# Altium integrated library Analog_Devices_Power_Management_Linear_Regulators.IntLib: 441 symbols (part 3 of 23)
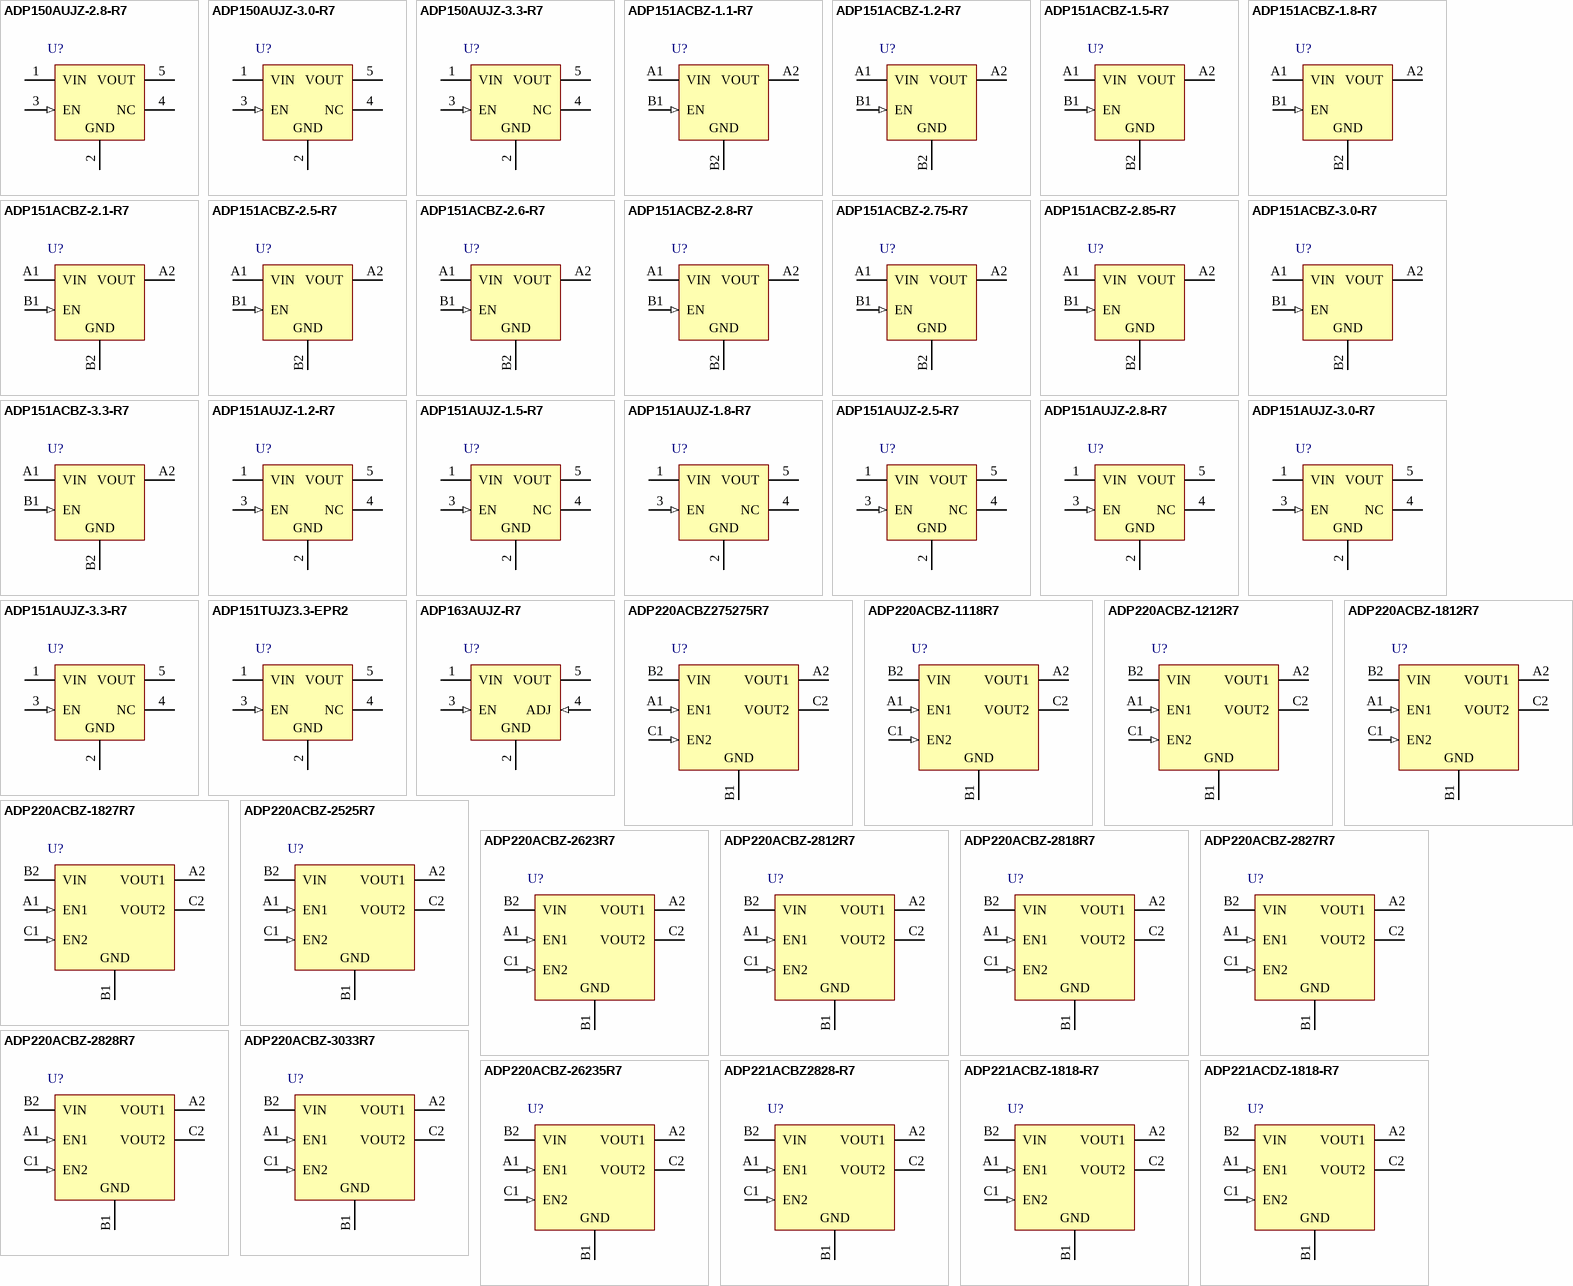
[diagram p13: symbols ADP150AUJZ-2.8-R7 to ADP221ACDZ-1818-R7]

## ADP151ACBZ-1.2-R7
designator U?
Ultralow Noise, 200 mA, CMOS Linear Regulator, 2.2 to 5.5 V Vin, 1.2 V Vout, Industrial, 4-pin BGA (CB-4-3), Reel; Manufacturer: Analog Devices; PartNumber: ADP151ACBZ-1.2-R7; Iout max: 200mA; Preset Vout Values (V): 1.2; Supply Current IGND @ Small Load: 10uA; Vin (max) (V): 5.5; Vin (min) (V): 2.2; DatasheetVersion: Rev. E; PackageVersion: 011409-A, 01/2009; PackageReference: CB-4-3; PackageDescription: 4-Ball Wafer Level Chip Scale Package, Body 0.76 x 0.76 mm, Pitch 0.4 mm; Supplier 1: Digi-Key; Supplier Part Number 1: ADP151ACBZ-1.2-R7TR-ND; Supplier 2: Digi-Key; Supplier Part Number 2: ADP151ACBZ-1.2-R7CT-ND; Supplier 3: Digi-Key; Supplier Part Number 3: ADP151ACBZ-1.2-R7DKR-ND; Supplier 4: Newark; Supplier Part Number 4: 23T4165; Supplier 5: Mouser; Supplier Part Number 5: 584-ADP151ACBZ-1.2R7; Packing: Reel; Mounting Technology: Surface Mount; ComponentLink1Description: Manufacturer URL; ComponentLink1URL: http://www.analog.com/en/index.html; ComponentLink2Description: Datasheet; ComponentLink2URL: http://www.analog.com/static/imported-files/data_sheets/ADP151.pdf; ComponentLink3Description: Package Specification; ComponentLink3URL: http:/www.analog.com/static/imported-files/packages/PKG_PDF/WLCSP(CB)/CB_4_3.pdf; ComponentLink4Description: URL Link1; ComponentLink4URL: Product URL:http://www.analog.com/en/ADP151/productSearch.html
footprint ADI-CB-4-3 (BGA, 4-Balls, Body 0.76x0.76mm, Pitch 0.4mm)
pins: A1 VIN (power) "Regulator Input Supply. Bypass VIN to GND with a 1 uF or greater capacitor", A2 VOUT (power) "Regulated Output Voltage. Bypass VOUT to GND with a 1 uF or greater capacitor", B1 EN (in) "Enable Input. Drive EN high to turn on the regulator; drive EN low to turn off the regulator. For automatic startup, connect EN to VIN.", B2 GND (power) "Ground"

## ADP151ACBZ-1.5-R7
designator U?
Ultralow Noise, 200 mA, CMOS Linear Regulator, 2.2 to 5.5 V Vin, 1.5 V Vout, Industrial, 4-pin BGA (CB-4-3), Reel; Manufacturer: Analog Devices; PartNumber: ADP151ACBZ-1.5-R7; Iout max: 200mA; Preset Vout Values (V): 1.5; Supply Current IGND @ Small Load: 10uA; Vin (max) (V): 5.5; Vin (min) (V): 2.2; DatasheetVersion: Rev. E; PackageVersion: 011409-A, 01/2009; PackageReference: CB-4-3; PackageDescription: 4-Ball Wafer Level Chip Scale Package, Body 0.76 x 0.76 mm, Pitch 0.4 mm; Supplier 1: Digi-Key; Supplier Part Number 1: ADP151ACBZ-1.5-R7TR-ND; Supplier 2: Digi-Key; Supplier Part Number 2: ADP151ACBZ-1.5-R7CT-ND; Supplier 3: Digi-Key; Supplier Part Number 3: ADP151ACBZ-1.5-R7DKR-ND; Supplier 4: Mouser; Supplier Part Number 4: 584-ADP151ACBZ-1.5R7; Packing: Reel; Mounting Technology: Surface Mount; ComponentLink1Description: Manufacturer URL; ComponentLink1URL: http://www.analog.com/en/index.html; ComponentLink2Description: Datasheet; ComponentLink2URL: http://www.analog.com/static/imported-files/data_sheets/ADP151.pdf; ComponentLink3Description: Package Specification; ComponentLink3URL: http:/www.analog.com/static/imported-files/packages/PKG_PDF/WLCSP(CB)/CB_4_3.pdf; ComponentLink4Description: URL Link1; ComponentLink4URL: Product URL:http://www.analog.com/en/ADP151/productSearch.html
footprint ADI-CB-4-3 (BGA, 4-Balls, Body 0.76x0.76mm, Pitch 0.4mm)
pins: A1 VIN (power) "Regulator Input Supply. Bypass VIN to GND with a 1 uF or greater capacitor", A2 VOUT (power) "Regulated Output Voltage. Bypass VOUT to GND with a 1 uF or greater capacitor", B1 EN (in) "Enable Input. Drive EN high to turn on the regulator; drive EN low to turn off the regulator. For automatic startup, connect EN to VIN.", B2 GND (power) "Ground"

## ADP151ACBZ-1.8-R7
designator U?
Ultralow Noise, 200 mA, CMOS Linear Regulator, 2.2 to 5.5 V Vin, 1.8 V Vout, Industrial, 4-pin BGA (CB-4-3), Reel; Manufacturer: Analog Devices; PartNumber: ADP151ACBZ-1.8-R7; Iout max: 200mA; Preset Vout Values (V): 1.8; Supply Current IGND @ Small Load: 10uA; Vin (max) (V): 5.5; Vin (min) (V): 2.2; DatasheetVersion: Rev. E; PackageVersion: 011409-A, 01/2009; PackageReference: CB-4-3; PackageDescription: 4-Ball Wafer Level Chip Scale Package, Body 0.76 x 0.76 mm, Pitch 0.4 mm; Supplier 1: Digi-Key; Supplier Part Number 1: ADP151ACBZ-1.8-R7TR-ND; Supplier 2: Digi-Key; Supplier Part Number 2: ADP151ACBZ-1.8-R7CT-ND; Supplier 3: Digi-Key; Supplier Part Number 3: ADP151ACBZ-1.8-R7DKR-ND; Supplier 4: Mouser; Supplier Part Number 4: 584-ADP151ACBZ-1.8R7; Packing: Reel; Mounting Technology: Surface Mount; ComponentLink1Description: Manufacturer URL; ComponentLink1URL: http://www.analog.com/en/index.html; ComponentLink2Description: Datasheet; ComponentLink2URL: http://www.analog.com/static/imported-files/data_sheets/ADP151.pdf; ComponentLink3Description: Package Specification; ComponentLink3URL: http:/www.analog.com/static/imported-files/packages/PKG_PDF/WLCSP(CB)/CB_4_3.pdf; ComponentLink4Description: URL Link1; ComponentLink4URL: Product URL:http://www.analog.com/en/ADP151/productSearch.html
footprint ADI-CB-4-3 (BGA, 4-Balls, Body 0.76x0.76mm, Pitch 0.4mm)
pins: A1 VIN (power) "Regulator Input Supply. Bypass VIN to GND with a 1 uF or greater capacitor", A2 VOUT (power) "Regulated Output Voltage. Bypass VOUT to GND with a 1 uF or greater capacitor", B1 EN (in) "Enable Input. Drive EN high to turn on the regulator; drive EN low to turn off the regulator. For automatic startup, connect EN to VIN.", B2 GND (power) "Ground"

## ADP151ACBZ-2.1-R7
designator U?
Ultralow Noise, 200 mA, CMOS Linear Regulator, 2.2 to 5.5 V Vin, 2.1 V Vout, Industrial, 4-pin BGA (CB-4-3), Reel; Manufacturer: Analog Devices; PartNumber: ADP151ACBZ-2.1-R7; Iout max: 200mA; Preset Vout Values (V): 2.1; Supply Current IGND @ Small Load: 10uA; Vin (max) (V): 5.5; Vin (min) (V): 2.2; DatasheetVersion: Rev. E; PackageVersion: 011409-A, 01/2009; PackageReference: CB-4-3; PackageDescription: 4-Ball Wafer Level Chip Scale Package, Body 0.76 x 0.76 mm, Pitch 0.4 mm; Supplier 1: Digi-Key; Supplier Part Number 1: ADP151ACBZ-2.1-R7TR-ND; Supplier 2: Digi-Key; Supplier Part Number 2: ADP151ACBZ-2.1-R7CT-ND; Supplier 3: Digi-Key; Supplier Part Number 3: ADP151ACBZ-2.1-R7DKR-ND; Supplier 4: Mouser; Supplier Part Number 4: 584-ADP151ACBZ-2.1R7; Packing: Reel; Mounting Technology: Surface Mount; ComponentLink1Description: Manufacturer URL; ComponentLink1URL: http://www.analog.com/en/index.html; ComponentLink2Description: Datasheet; ComponentLink2URL: http://www.analog.com/static/imported-files/data_sheets/ADP151.pdf; ComponentLink3Description: Package Specification; ComponentLink3URL: http:/www.analog.com/static/imported-files/packages/PKG_PDF/WLCSP(CB)/CB_4_3.pdf; ComponentLink4Description: URL Link1; ComponentLink4URL: Product URL:http://www.analog.com/en/ADP151/productSearch.html
footprint ADI-CB-4-3 (BGA, 4-Balls, Body 0.76x0.76mm, Pitch 0.4mm)
pins: A1 VIN (power) "Regulator Input Supply. Bypass VIN to GND with a 1 uF or greater capacitor", A2 VOUT (power) "Regulated Output Voltage. Bypass VOUT to GND with a 1 uF or greater capacitor", B1 EN (in) "Enable Input. Drive EN high to turn on the regulator; drive EN low to turn off the regulator. For automatic startup, connect EN to VIN.", B2 GND (power) "Ground"

## ADP151ACBZ-2.5-R7
designator U?
Ultralow Noise, 200 mA, CMOS Linear Regulator, 2.2 to 5.5 V Vin, 2.5 V Vout, Industrial, 4-pin BGA (CB-4-3), Reel; Manufacturer: Analog Devices; PartNumber: ADP151ACBZ-2.5-R7; Iout max: 200mA; Preset Vout Values (V): 2.5; Supply Current IGND @ Small Load: 10uA; Vin (max) (V): 5.5; Vin (min) (V): 2.2; DatasheetVersion: Rev. E; PackageVersion: 011409-A, 01/2009; PackageReference: CB-4-3; PackageDescription: 4-Ball Wafer Level Chip Scale Package, Body 0.76 x 0.76 mm, Pitch 0.4 mm; Supplier 1: Digi-Key; Supplier Part Number 1: ADP151ACBZ-2.5-R7TR-ND; Supplier 2: Digi-Key; Supplier Part Number 2: ADP151ACBZ-2.5-R7CT-ND; Supplier 3: Digi-Key; Supplier Part Number 3: ADP151ACBZ-2.5-R7DKR-ND; Supplier 4: Mouser; Supplier Part Number 4: 584-ADP151ACBZ-2.5R7; Packing: Reel; Mounting Technology: Surface Mount; ComponentLink1Description: Manufacturer URL; ComponentLink1URL: http://www.analog.com/en/index.html; ComponentLink2Description: Datasheet; ComponentLink2URL: http://www.analog.com/static/imported-files/data_sheets/ADP151.pdf; ComponentLink3Description: Package Specification; ComponentLink3URL: http:/www.analog.com/static/imported-files/packages/PKG_PDF/WLCSP(CB)/CB_4_3.pdf; ComponentLink4Description: URL Link1; ComponentLink4URL: Product URL:http://www.analog.com/en/ADP151/productSearch.html
footprint ADI-CB-4-3 (BGA, 4-Balls, Body 0.76x0.76mm, Pitch 0.4mm)
pins: A1 VIN (power) "Regulator Input Supply. Bypass VIN to GND with a 1 uF or greater capacitor", A2 VOUT (power) "Regulated Output Voltage. Bypass VOUT to GND with a 1 uF or greater capacitor", B1 EN (in) "Enable Input. Drive EN high to turn on the regulator; drive EN low to turn off the regulator. For automatic startup, connect EN to VIN.", B2 GND (power) "Ground"

## ADP151ACBZ-2.6-R7
designator U?
Ultralow Noise, 200 mA, CMOS Linear Regulator, 2.2 to 5.5 V Vin, 2.6 V Vout, Industrial, 4-pin BGA (CB-4-3), Reel; Manufacturer: Analog Devices; PartNumber: ADP151ACBZ-2.6-R7; Iout max: 200mA; Preset Vout Values (V): 2.6; Supply Current IGND @ Small Load: 10uA; Vin (max) (V): 5.5; Vin (min) (V): 2.2; DatasheetVersion: Rev. E; PackageVersion: 011409-A, 01/2009; PackageReference: CB-4-3; PackageDescription: 4-Ball Wafer Level Chip Scale Package, Body 0.76 x 0.76 mm, Pitch 0.4 mm; Supplier 1: Digi-Key; Supplier Part Number 1: ADP151ACBZ-2.6-R7TR-ND; Supplier 2: Digi-Key; Supplier Part Number 2: ADP151ACBZ-2.6-R7CT-ND; Supplier 3: Digi-Key; Supplier Part Number 3: ADP151ACBZ-2.6-R7DKR-ND; Supplier 4: Mouser; Supplier Part Number 4: 584-ADP151ACBZ-2.6R7; Packing: Reel; Mounting Technology: Surface Mount; ComponentLink1Description: Manufacturer URL; ComponentLink1URL: http://www.analog.com/en/index.html; ComponentLink2Description: Datasheet; ComponentLink2URL: http://www.analog.com/static/imported-files/data_sheets/ADP151.pdf; ComponentLink3Description: Package Specification; ComponentLink3URL: http:/www.analog.com/static/imported-files/packages/PKG_PDF/WLCSP(CB)/CB_4_3.pdf; ComponentLink4Description: URL Link1; ComponentLink4URL: Product URL:http://www.analog.com/en/ADP151/productSearch.html
footprint ADI-CB-4-3 (BGA, 4-Balls, Body 0.76x0.76mm, Pitch 0.4mm)
pins: A1 VIN (power) "Regulator Input Supply. Bypass VIN to GND with a 1 uF or greater capacitor", A2 VOUT (power) "Regulated Output Voltage. Bypass VOUT to GND with a 1 uF or greater capacitor", B1 EN (in) "Enable Input. Drive EN high to turn on the regulator; drive EN low to turn off the regulator. For automatic startup, connect EN to VIN.", B2 GND (power) "Ground"

## ADP151ACBZ-2.8-R7
designator U?
Ultralow Noise, 200 mA, CMOS Linear Regulator, 2.2 to 5.5 V Vin, 2.8 V Vout, Industrial, 4-pin BGA (CB-4-3), Reel; Manufacturer: Analog Devices; PartNumber: ADP151ACBZ-2.8-R7; Iout max: 200mA; Preset Vout Values (V): 2.8; Supply Current IGND @ Small Load: 10uA; Vin (max) (V): 5.5; Vin (min) (V): 2.2; DatasheetVersion: Rev. E; PackageVersion: 011409-A, 01/2009; PackageReference: CB-4-3; PackageDescription: 4-Ball Wafer Level Chip Scale Package, Body 0.76 x 0.76 mm, Pitch 0.4 mm; Supplier 1: Digi-Key; Supplier Part Number 1: ADP151ACBZ-2.8-R7TR-ND; Supplier 2: Digi-Key; Supplier Part Number 2: ADP151ACBZ-2.8-R7CT-ND; Supplier 3: Digi-Key; Supplier Part Number 3: ADP151ACBZ-2.8-R7DKR-ND; Supplier 4: Mouser; Supplier Part Number 4: 584-ADP151ACBZ-2.8R7; Packing: Reel; Mounting Technology: Surface Mount; ComponentLink1Description: Manufacturer URL; ComponentLink1URL: http://www.analog.com/en/index.html; ComponentLink2Description: Datasheet; ComponentLink2URL: http://www.analog.com/static/imported-files/data_sheets/ADP151.pdf; ComponentLink3Description: Package Specification; ComponentLink3URL: http:/www.analog.com/static/imported-files/packages/PKG_PDF/WLCSP(CB)/CB_4_3.pdf; ComponentLink4Description: URL Link1; ComponentLink4URL: Product URL:http://www.analog.com/en/ADP151/productSearch.html
footprint ADI-CB-4-3 (BGA, 4-Balls, Body 0.76x0.76mm, Pitch 0.4mm)
pins: A1 VIN (power) "Regulator Input Supply. Bypass VIN to GND with a 1 uF or greater capacitor", A2 VOUT (power) "Regulated Output Voltage. Bypass VOUT to GND with a 1 uF or greater capacitor", B1 EN (in) "Enable Input. Drive EN high to turn on the regulator; drive EN low to turn off the regulator. For automatic startup, connect EN to VIN.", B2 GND (power) "Ground"

## ADP151ACBZ-2.75-R7
designator U?
Ultralow Noise, 200 mA, CMOS Linear Regulator, 2.2 to 5.5 V Vin, 2.75 V Vout, Industrial, 4-pin BGA (CB-4-3), Reel; Manufacturer: Analog Devices; PartNumber: ADP151ACBZ-2.75-R7; Iout max: 200mA; Preset Vout Values (V): 2.75; Supply Current IGND @ Small Load: 10uA; Vin (max) (V): 5.5; Vin (min) (V): 2.2; DatasheetVersion: Rev. E; PackageVersion: 011409-A, 01/2009; PackageReference: CB-4-3; PackageDescription: 4-Ball Wafer Level Chip Scale Package, Body 0.76 x 0.76 mm, Pitch 0.4 mm; Supplier 1: Digi-Key; Supplier Part Number 1: ADP151ACBZ-2.75-R7TR-ND; Supplier 2: Digi-Key; Supplier Part Number 2: ADP151ACBZ-2.75-R7CT-ND; Supplier 3: Digi-Key; Supplier Part Number 3: ADP151ACBZ-2.75-R7DKR-ND; Supplier 4: Newark; Supplier Part Number 4: 74R5876; Supplier 5: Mouser; Supplier Part Number 5: 584-ADP151ACBZ2.75R7; Packing: Reel; Mounting Technology: Surface Mount; ComponentLink1Description: Manufacturer URL; ComponentLink1URL: http://www.analog.com/en/index.html; ComponentLink2Description: Datasheet; ComponentLink2URL: http://www.analog.com/static/imported-files/data_sheets/ADP151.pdf; ComponentLink3Description: Package Specification; ComponentLink3URL: http:/www.analog.com/static/imported-files/packages/PKG_PDF/WLCSP(CB)/CB_4_3.pdf; ComponentLink4Description: URL Link1; ComponentLink4URL: Product URL:http://www.analog.com/en/ADP151/productSearch.html
footprint ADI-CB-4-3 (BGA, 4-Balls, Body 0.76x0.76mm, Pitch 0.4mm)
pins: A1 VIN (power) "Regulator Input Supply. Bypass VIN to GND with a 1 uF or greater capacitor", A2 VOUT (power) "Regulated Output Voltage. Bypass VOUT to GND with a 1 uF or greater capacitor", B1 EN (in) "Enable Input. Drive EN high to turn on the regulator; drive EN low to turn off the regulator. For automatic startup, connect EN to VIN.", B2 GND (power) "Ground"

## ADP151ACBZ-2.85-R7
designator U?
Ultralow Noise, 200 mA, CMOS Linear Regulator, 2.2 to 5.5 V Vin, 2.85 V Vout, Industrial, 4-pin BGA (CB-4-3), Reel; Manufacturer: Analog Devices; PartNumber: ADP151ACBZ-2.85-R7; Iout max: 200mA; Preset Vout Values (V): 2.85; Supply Current IGND @ Small Load: 10uA; Vin (max) (V): 5.5; Vin (min) (V): 2.2; DatasheetVersion: Rev. E; PackageVersion: 011409-A, 01/2009; PackageReference: CB-4-3; PackageDescription: 4-Ball Wafer Level Chip Scale Package, Body 0.76 x 0.76 mm, Pitch 0.4 mm; Supplier 1: Digi-Key; Supplier Part Number 1: ADP151ACBZ-2.85-R7TR-ND; Supplier 2: Digi-Key; Supplier Part Number 2: ADP151ACBZ-2.85-R7CT-ND; Supplier 3: Digi-Key; Supplier Part Number 3: ADP151ACBZ-2.85-R7DKR-ND; Supplier 4: Mouser; Supplier Part Number 4: 584-ADP151ACBZ2.85R7; Packing: Reel; Mounting Technology: Surface Mount; ComponentLink1Description: Manufacturer URL; ComponentLink1URL: http://www.analog.com/en/index.html; ComponentLink2Description: Datasheet; ComponentLink2URL: http://www.analog.com/static/imported-files/data_sheets/ADP151.pdf; ComponentLink3Description: Package Specification; ComponentLink3URL: http:/www.analog.com/static/imported-files/packages/PKG_PDF/WLCSP(CB)/CB_4_3.pdf; ComponentLink4Description: URL Link1; ComponentLink4URL: Product URL:http://www.analog.com/en/ADP151/productSearch.html
footprint ADI-CB-4-3 (BGA, 4-Balls, Body 0.76x0.76mm, Pitch 0.4mm)
pins: A1 VIN (power) "Regulator Input Supply. Bypass VIN to GND with a 1 uF or greater capacitor", A2 VOUT (power) "Regulated Output Voltage. Bypass VOUT to GND with a 1 uF or greater capacitor", B1 EN (in) "Enable Input. Drive EN high to turn on the regulator; drive EN low to turn off the regulator. For automatic startup, connect EN to VIN.", B2 GND (power) "Ground"

## ADP151ACBZ-3.0-R7
designator U?
Ultralow Noise, 200 mA, CMOS Linear Regulator, 2.2 to 5.5 V Vin, 3 V Vout, Industrial, 4-pin BGA (CB-4-3), Reel; Manufacturer: Analog Devices; PartNumber: ADP151ACBZ-3.0-R7; Iout max: 200mA; Preset Vout Values (V): 3.0; Supply Current IGND @ Small Load: 10uA; Vin (max) (V): 5.5; Vin (min) (V): 2.2; DatasheetVersion: Rev. E; PackageVersion: 011409-A, 01/2009; PackageReference: CB-4-3; PackageDescription: 4-Ball Wafer Level Chip Scale Package, Body 0.76 x 0.76 mm, Pitch 0.4 mm; Supplier 1: Digi-Key; Supplier Part Number 1: ADP151ACBZ-3.0-R7TR-ND; Supplier 2: Digi-Key; Supplier Part Number 2: ADP151ACBZ-3.0-R7CT-ND; Supplier 3: Digi-Key; Supplier Part Number 3: ADP151ACBZ-3.0-R7DKR-ND; Supplier 4: Mouser; Supplier Part Number 4: 584-ADP151ACBZ-3.0R7; Packing: Reel; Mounting Technology: Surface Mount; ComponentLink1Description: Manufacturer URL; ComponentLink1URL: http://www.analog.com/en/index.html; ComponentLink2Description: Datasheet; ComponentLink2URL: http://www.analog.com/static/imported-files/data_sheets/ADP151.pdf; ComponentLink3Description: Package Specification; ComponentLink3URL: http:/www.analog.com/static/imported-files/packages/PKG_PDF/WLCSP(CB)/CB_4_3.pdf; ComponentLink4Description: URL Link1; ComponentLink4URL: Product URL:http://www.analog.com/en/ADP151/productSearch.html
footprint ADI-CB-4-3 (BGA, 4-Balls, Body 0.76x0.76mm, Pitch 0.4mm)
pins: A1 VIN (power) "Regulator Input Supply. Bypass VIN to GND with a 1 uF or greater capacitor", A2 VOUT (power) "Regulated Output Voltage. Bypass VOUT to GND with a 1 uF or greater capacitor", B1 EN (in) "Enable Input. Drive EN high to turn on the regulator; drive EN low to turn off the regulator. For automatic startup, connect EN to VIN.", B2 GND (power) "Ground"

## ADP151ACBZ-3.3-R7
designator U?
Ultralow Noise, 200 mA, CMOS Linear Regulator, 2.2 to 5.5 V Vin, 3.3 V Vout, Industrial, 4-pin BGA (CB-4-3), Reel; Manufacturer: Analog Devices; PartNumber: ADP151ACBZ-3.3-R7; Iout max: 200mA; Preset Vout Values (V): 3.3; Supply Current IGND @ Small Load: 10uA; Vin (max) (V): 5.5; Vin (min) (V): 2.2; DatasheetVersion: Rev. E; PackageVersion: 011409-A, 01/2009; PackageReference: CB-4-3; PackageDescription: 4-Ball Wafer Level Chip Scale Package, Body 0.76 x 0.76 mm, Pitch 0.4 mm; Supplier 1: Digi-Key; Supplier Part Number 1: ADP151ACBZ-3.3-R7TR-ND; Supplier 2: Digi-Key; Supplier Part Number 2: ADP151ACBZ-3.3-R7CT-ND; Supplier 3: Digi-Key; Supplier Part Number 3: ADP151ACBZ-3.3-R7DKR-ND; Supplier 4: Newark; Supplier Part Number 4: 74R5880; Supplier 5: Mouser; Supplier Part Number 5: 584-ADP151ACBZ-3.3R7; Packing: Reel; Mounting Technology: Surface Mount; ComponentLink1Description: Manufacturer URL; ComponentLink1URL: http://www.analog.com/en/index.html; ComponentLink2Description: Datasheet; ComponentLink2URL: http://www.analog.com/static/imported-files/data_sheets/ADP151.pdf; ComponentLink3Description: Package Specification; ComponentLink3URL: http:/www.analog.com/static/imported-files/packages/PKG_PDF/WLCSP(CB)/CB_4_3.pdf; ComponentLink4Description: URL Link1; ComponentLink4URL: Product URL:http://www.analog.com/en/ADP151/productSearch.html
footprint ADI-CB-4-3 (BGA, 4-Balls, Body 0.76x0.76mm, Pitch 0.4mm)
pins: A1 VIN (power) "Regulator Input Supply. Bypass VIN to GND with a 1 uF or greater capacitor", A2 VOUT (power) "Regulated Output Voltage. Bypass VOUT to GND with a 1 uF or greater capacitor", B1 EN (in) "Enable Input. Drive EN high to turn on the regulator; drive EN low to turn off the regulator. For automatic startup, connect EN to VIN.", B2 GND (power) "Ground"

## ADP151AUJZ-1.2-R7
designator U?
Ultralow Noise, 200 mA, CMOS Linear Regulator, 2.2 to 5.5 V Vin, 1.2 V Vout, Industrial, 5-pin SOT23 (UJ-5), Reel; Manufacturer: Analog Devices; PartNumber: ADP151AUJZ-1.2-R7; Iout max: 200mA; Preset Vout Values (V): 1.2; Supply Current IGND @ Small Load: 10uA; Vin (max) (V): 5.5; Vin (min) (V): 2.2; DatasheetVersion: Rev. E; PackageVersion: 100708-A, 10/2008; PackageReference: UJ-5; PackageDescription: 5-Pin Thin Small Outline Transistor Package, Body 2.9 x 1.6 mm, Pitch 0.95 mm; Supplier 1: Digi-Key; Supplier Part Number 1: ADP151AUJZ-1.2-R7TR-ND; Supplier 2: Digi-Key; Supplier Part Number 2: ADP151AUJZ-1.2-R7CT-ND; Supplier 3: Digi-Key; Supplier Part Number 3: ADP151AUJZ-1.2-R7DKR-ND; Supplier 4: Farnell; Supplier Part Number 4: 2312875; Supplier 5: Newark; Supplier Part Number 5: 67W2688; Supplier 6: Newark; Supplier Part Number 6: 74R5881; Supplier 7: Mouser; Supplier Part Number 7: 584-ADP151AUJZ-1.2R7; Packing: Reel; Mounting Technology: Surface Mount; Code_JEDEC: MO-193-AB; ComponentLink1Description: Manufacturer URL; ComponentLink1URL: http://www.analog.com/en/index.html; ComponentLink2Description: Datasheet; ComponentLink2URL: http://www.analog.com/static/imported-files/data_sheets/ADP151.pdf; ComponentLink3Description: Package Specification; ComponentLink3URL: http:/www.analog.com/static/imported-files/packages/PKG_PDF/TSOT(UJ)/UJ_5.pdf; ComponentLink4Description: URL Link1; ComponentLink4URL: Product URL:http://www.analog.com/en/ADP151/productSearch.html
footprint ADI-UJ-5_N (SOT23, 5-Leads, Body 2.9x1.6mm, Pitch 0.95mm, IPC Medium Density)
footprint ADI-UJ-5_L (SOT23, 5-Leads, Body 2.9x1.6mm, Pitch 0.95mm, IPC High Density)
footprint ADI-UJ-5_M (SOT23, 5-Leads, Body 2.9x1.6mm, Pitch 0.95mm, IPC Low Density)
pins: 1 VIN (power) "Regulator Input Supply. Bypass VIN to GND with a capacitor of at least 1 uF.", 2 GND (power) "Ground.", 3 EN (in) "Enable Input. Drive EN high to turn on the regulator; drive EN low to turn off the regulator. For automatic startup, connect EN to VIN.", 4 NC "No Connect. These pins are not internally bonded. They can be left floating or connected to ground.", 5 VOUT (power) "Regulated Output Voltage. Bypass VOUT to GND with a capacitor of at least 1 uF."

## ADP151AUJZ-1.5-R7
designator U?
Ultralow Noise, 200 mA, CMOS Linear Regulator, 2.2 to 5.5 V Vin, 1.5 V Vout, Industrial, 5-pin SOT23 (UJ-5), Reel; Manufacturer: Analog Devices; PartNumber: ADP151AUJZ-1.5-R7; Iout max: 200mA; Preset Vout Values (V): 1.5; Supply Current IGND @ Small Load: 10uA; Vin (max) (V): 5.5; Vin (min) (V): 2.2; DatasheetVersion: Rev. E; PackageVersion: 100708-A, 10/2008; PackageReference: UJ-5; PackageDescription: 5-Pin Thin Small Outline Transistor Package, Body 2.9 x 1.6 mm, Pitch 0.95 mm; Supplier 1: Digi-Key; Supplier Part Number 1: ADP151AUJZ-1.5-R7TR-ND; Supplier 2: Digi-Key; Supplier Part Number 2: ADP151AUJZ-1.5-R7CT-ND; Supplier 3: Digi-Key; Supplier Part Number 3: ADP151AUJZ-1.5-R7DKR-ND; Supplier 4: Newark; Supplier Part Number 4: 74R5882; Supplier 5: Mouser; Supplier Part Number 5: 584-ADP151AUJZ-1.5R7; Packing: Reel; Mounting Technology: Surface Mount; Code_JEDEC: MO-193-AB; ComponentLink1Description: Manufacturer URL; ComponentLink1URL: http://www.analog.com/en/index.html; ComponentLink2Description: Datasheet; ComponentLink2URL: http://www.analog.com/static/imported-files/data_sheets/ADP151.pdf; ComponentLink3Description: Package Specification; ComponentLink3URL: http:/www.analog.com/static/imported-files/packages/PKG_PDF/TSOT(UJ)/UJ_5.pdf; ComponentLink4Description: URL Link1; ComponentLink4URL: Product URL:http://www.analog.com/en/ADP151/productSearch.html
footprint ADI-UJ-5_N (SOT23, 5-Leads, Body 2.9x1.6mm, Pitch 0.95mm, IPC Medium Density)
footprint ADI-UJ-5_L (SOT23, 5-Leads, Body 2.9x1.6mm, Pitch 0.95mm, IPC High Density)
footprint ADI-UJ-5_M (SOT23, 5-Leads, Body 2.9x1.6mm, Pitch 0.95mm, IPC Low Density)
pins: 1 VIN (power) "Regulator Input Supply. Bypass VIN to GND with a capacitor of at least 1 uF.", 2 GND (power) "Ground.", 3 EN (in) "Enable Input. Drive EN high to turn on the regulator; drive EN low to turn off the regulator. For automatic startup, connect EN to VIN.", 4 NC "No Connect. These pins are not internally bonded. They can be left floating or connected to ground.", 5 VOUT (power) "Regulated Output Voltage. Bypass VOUT to GND with a capacitor of at least 1 uF."

## ADP151AUJZ-1.8-R7
designator U?
Ultralow Noise, 200 mA, CMOS Linear Regulator, 2.2 to 5.5 V Vin, 1.8 V Vout, Industrial, 5-pin SOT23 (UJ-5), Reel; Manufacturer: Analog Devices; PartNumber: ADP151AUJZ-1.8-R7; Iout max: 200mA; Preset Vout Values (V): 1.8; Supply Current IGND @ Small Load: 10uA; Vin (max) (V): 5.5; Vin (min) (V): 2.2; DatasheetVersion: Rev. E; PackageVersion: 100708-A, 10/2008; PackageReference: UJ-5; PackageDescription: 5-Pin Thin Small Outline Transistor Package, Body 2.9 x 1.6 mm, Pitch 0.95 mm; Supplier 1: Digi-Key; Supplier Part Number 1: ADP151AUJZ-1.8-R7TR-ND; Supplier 2: Digi-Key; Supplier Part Number 2: ADP151AUJZ-1.8-R7CT-ND; Supplier 3: Digi-Key; Supplier Part Number 3: ADP151AUJZ-1.8-R7DKR-ND; Supplier 4: Farnell; Supplier Part Number 4: 2312877; Supplier 5: Newark; Supplier Part Number 5: 74R5883; Supplier 6: Newark; Supplier Part Number 6: 67W2689; Supplier 7: Mouser; Supplier Part Number 7: 584-ADP151AUJZ-1.8R7; Packing: Reel; Mounting Technology: Surface Mount; Code_JEDEC: MO-193-AB; ComponentLink1Description: Manufacturer URL; ComponentLink1URL: http://www.analog.com/en/index.html; ComponentLink2Description: Datasheet; ComponentLink2URL: http://www.analog.com/static/imported-files/data_sheets/ADP151.pdf; ComponentLink3Description: Package Specification; ComponentLink3URL: http:/www.analog.com/static/imported-files/packages/PKG_PDF/TSOT(UJ)/UJ_5.pdf; ComponentLink4Description: URL Link1; ComponentLink4URL: Product URL:http://www.analog.com/en/ADP151/productSearch.html
footprint ADI-UJ-5_N (SOT23, 5-Leads, Body 2.9x1.6mm, Pitch 0.95mm, IPC Medium Density)
footprint ADI-UJ-5_L (SOT23, 5-Leads, Body 2.9x1.6mm, Pitch 0.95mm, IPC High Density)
footprint ADI-UJ-5_M (SOT23, 5-Leads, Body 2.9x1.6mm, Pitch 0.95mm, IPC Low Density)
pins: 1 VIN (power) "Regulator Input Supply. Bypass VIN to GND with a capacitor of at least 1 uF.", 2 GND (power) "Ground.", 3 EN (in) "Enable Input. Drive EN high to turn on the regulator; drive EN low to turn off the regulator. For automatic startup, connect EN to VIN.", 4 NC "No Connect. These pins are not internally bonded. They can be left floating or connected to ground.", 5 VOUT (power) "Regulated Output Voltage. Bypass VOUT to GND with a capacitor of at least 1 uF."

## ADP151AUJZ-2.5-R7
designator U?
Ultralow Noise, 200 mA, CMOS Linear Regulator, 2.2 to 5.5 V Vin, 2.5 V Vout, Industrial, 5-pin SOT23 (UJ-5), Reel; Manufacturer: Analog Devices; PartNumber: ADP151AUJZ-2.5-R7; Iout max: 200mA; Preset Vout Values (V): 2.5; Supply Current IGND @ Small Load: 10uA; Vin (max) (V): 5.5; Vin (min) (V): 2.2; DatasheetVersion: Rev. E; PackageVersion: 100708-A, 10/2008; PackageReference: UJ-5; PackageDescription: 5-Pin Thin Small Outline Transistor Package, Body 2.9 x 1.6 mm, Pitch 0.95 mm; Supplier 1: Digi-Key; Supplier Part Number 1: ADP151AUJZ-2.5-R7TR-ND; Supplier 2: Digi-Key; Supplier Part Number 2: ADP151AUJZ-2.5-R7CT-ND; Supplier 3: Digi-Key; Supplier Part Number 3: ADP151AUJZ-2.5-R7DKR-ND; Supplier 4: Farnell; Supplier Part Number 4: 2312878; Supplier 5: Newark; Supplier Part Number 5: 67W2690; Supplier 6: Newark; Supplier Part Number 6: 74R5884; Supplier 7: Mouser; Supplier Part Number 7: 584-ADP151AUJZ-2.5R7; Packing: Reel; Mounting Technology: Surface Mount; Code_JEDEC: MO-193-AB; ComponentLink1Description: Manufacturer URL; ComponentLink1URL: http://www.analog.com/en/index.html; ComponentLink2Description: Datasheet; ComponentLink2URL: http://www.analog.com/static/imported-files/data_sheets/ADP151.pdf; ComponentLink3Description: Package Specification; ComponentLink3URL: http:/www.analog.com/static/imported-files/packages/PKG_PDF/TSOT(UJ)/UJ_5.pdf; ComponentLink4Description: URL Link1; ComponentLink4URL: Product URL:http://www.analog.com/en/ADP151/productSearch.html
footprint ADI-UJ-5_N (SOT23, 5-Leads, Body 2.9x1.6mm, Pitch 0.95mm, IPC Medium Density)
footprint ADI-UJ-5_L (SOT23, 5-Leads, Body 2.9x1.6mm, Pitch 0.95mm, IPC High Density)
footprint ADI-UJ-5_M (SOT23, 5-Leads, Body 2.9x1.6mm, Pitch 0.95mm, IPC Low Density)
pins: 1 VIN (power) "Regulator Input Supply. Bypass VIN to GND with a capacitor of at least 1 uF.", 2 GND (power) "Ground.", 3 EN (in) "Enable Input. Drive EN high to turn on the regulator; drive EN low to turn off the regulator. For automatic startup, connect EN to VIN.", 4 NC "No Connect. These pins are not internally bonded. They can be left floating or connected to ground.", 5 VOUT (power) "Regulated Output Voltage. Bypass VOUT to GND with a capacitor of at least 1 uF."

## ADP151AUJZ-2.8-R7
designator U?
Ultralow Noise, 200 mA, CMOS Linear Regulator, 2.2 to 5.5 V Vin, 2.8 V Vout, Industrial, 5-pin SOT23 (UJ-5), Reel; Manufacturer: Analog Devices; PartNumber: ADP151AUJZ-2.8-R7; Iout max: 200mA; Preset Vout Values (V): 2.8; Supply Current IGND @ Small Load: 10uA; Vin (max) (V): 5.5; Vin (min) (V): 2.2; DatasheetVersion: Rev. E; PackageVersion: 100708-A, 10/2008; PackageReference: UJ-5; PackageDescription: 5-Pin Thin Small Outline Transistor Package, Body 2.9 x 1.6 mm, Pitch 0.95 mm; Supplier 1: Digi-Key; Supplier Part Number 1: ADP151AUJZ-2.8-R7TR-ND; Supplier 2: Digi-Key; Supplier Part Number 2: ADP151AUJZ-2.8-R7CT-ND; Supplier 3: Digi-Key; Supplier Part Number 3: ADP151AUJZ-2.8-R7DKR-ND; Supplier 4: Mouser; Supplier Part Number 4: 584-ADP151AUJZ-2.8R7; Packing: Reel; Mounting Technology: Surface Mount; Code_JEDEC: MO-193-AB; ComponentLink1Description: Manufacturer URL; ComponentLink1URL: http://www.analog.com/en/index.html; ComponentLink2Description: Datasheet; ComponentLink2URL: http://www.analog.com/static/imported-files/data_sheets/ADP151.pdf; ComponentLink3Description: Package Specification; ComponentLink3URL: http:/www.analog.com/static/imported-files/packages/PKG_PDF/TSOT(UJ)/UJ_5.pdf; ComponentLink4Description: URL Link1; ComponentLink4URL: Product URL:http://www.analog.com/en/ADP151/productSearch.html
footprint ADI-UJ-5_N (SOT23, 5-Leads, Body 2.9x1.6mm, Pitch 0.95mm, IPC Medium Density)
footprint ADI-UJ-5_L (SOT23, 5-Leads, Body 2.9x1.6mm, Pitch 0.95mm, IPC High Density)
footprint ADI-UJ-5_M (SOT23, 5-Leads, Body 2.9x1.6mm, Pitch 0.95mm, IPC Low Density)
pins: 1 VIN (power) "Regulator Input Supply. Bypass VIN to GND with a capacitor of at least 1 uF.", 2 GND (power) "Ground.", 3 EN (in) "Enable Input. Drive EN high to turn on the regulator; drive EN low to turn off the regulator. For automatic startup, connect EN to VIN.", 4 NC "No Connect. These pins are not internally bonded. They can be left floating or connected to ground.", 5 VOUT (power) "Regulated Output Voltage. Bypass VOUT to GND with a capacitor of at least 1 uF."

## ADP151AUJZ-3.0-R7
designator U?
Ultralow Noise, 200 mA, CMOS Linear Regulator, 2.2 to 5.5 V Vin, 3 V Vout, Industrial, 5-pin SOT23 (UJ-5), Reel; Manufacturer: Analog Devices; PartNumber: ADP151AUJZ-3.0-R7; Iout max: 200mA; Preset Vout Values (V): 3.0; Supply Current IGND @ Small Load: 10uA; Vin (max) (V): 5.5; Vin (min) (V): 2.2; DatasheetVersion: Rev. E; PackageVersion: 100708-A, 10/2008; PackageReference: UJ-5; PackageDescription: 5-Pin Thin Small Outline Transistor Package, Body 2.9 x 1.6 mm, Pitch 0.95 mm; Supplier 1: Digi-Key; Supplier Part Number 1: ADP151AUJZ-3.0-R7TR-ND; Supplier 2: Digi-Key; Supplier Part Number 2: ADP151AUJZ-3.0-R7CT-ND; Supplier 3: Digi-Key; Supplier Part Number 3: ADP151AUJZ-3.0-R7DKR-ND; Supplier 4: Farnell; Supplier Part Number 4: 2312879; Supplier 5: Newark; Supplier Part Number 5: 67W2691; Supplier 6: Newark; Supplier Part Number 6: 74R5886; Supplier 7: Mouser; Supplier Part Number 7: 584-ADP151AUJZ-3.0R7; Packing: Reel; Mounting Technology: Surface Mount; Code_JEDEC: MO-193-AB; ComponentLink1Description: Manufacturer URL; ComponentLink1URL: http://www.analog.com/en/index.html; ComponentLink2Description: Datasheet; ComponentLink2URL: http://www.analog.com/static/imported-files/data_sheets/ADP151.pdf; ComponentLink3Description: Package Specification; ComponentLink3URL: http:/www.analog.com/static/imported-files/packages/PKG_PDF/TSOT(UJ)/UJ_5.pdf; ComponentLink4Description: URL Link1; ComponentLink4URL: Product URL:http://www.analog.com/en/ADP151/productSearch.html
footprint ADI-UJ-5_N (SOT23, 5-Leads, Body 2.9x1.6mm, Pitch 0.95mm, IPC Medium Density)
footprint ADI-UJ-5_L (SOT23, 5-Leads, Body 2.9x1.6mm, Pitch 0.95mm, IPC High Density)
footprint ADI-UJ-5_M (SOT23, 5-Leads, Body 2.9x1.6mm, Pitch 0.95mm, IPC Low Density)
pins: 1 VIN (power) "Regulator Input Supply. Bypass VIN to GND with a capacitor of at least 1 uF.", 2 GND (power) "Ground.", 3 EN (in) "Enable Input. Drive EN high to turn on the regulator; drive EN low to turn off the regulator. For automatic startup, connect EN to VIN.", 4 NC "No Connect. These pins are not internally bonded. They can be left floating or connected to ground.", 5 VOUT (power) "Regulated Output Voltage. Bypass VOUT to GND with a capacitor of at least 1 uF."

## ADP151AUJZ-3.3-R7
designator U?
Ultralow Noise, 200 mA, CMOS Linear Regulator, 2.2 to 5.5 V Vin, 3.3 V Vout, Industrial, 5-pin SOT23 (UJ-5), Reel; Manufacturer: Analog Devices; PartNumber: ADP151AUJZ-3.3-R7; Iout max: 200mA; Preset Vout Values (V): 3.3; Supply Current IGND @ Small Load: 10uA; Vin (max) (V): 5.5; Vin (min) (V): 2.2; DatasheetVersion: Rev. E; PackageVersion: 100708-A, 10/2008; PackageReference: UJ-5; PackageDescription: 5-Pin Thin Small Outline Transistor Package, Body 2.9 x 1.6 mm, Pitch 0.95 mm; Supplier 1: Digi-Key; Supplier Part Number 1: ADP151AUJZ-3.3-R7TR-ND; Supplier 2: Digi-Key; Supplier Part Number 2: ADP151AUJZ-3.3-R7CT-ND; Supplier 3: Digi-Key; Supplier Part Number 3: ADP151AUJZ-3.3-R7DKR-ND; Supplier 4: Farnell; Supplier Part Number 4: 2074871; Supplier 5: Farnell; Supplier Part Number 5: 2074871RL; Supplier 6: Newark; Supplier Part Number 6: 67W2692; Supplier 7: Newark; Supplier Part Number 7: 74R5887; Supplier 8: Mouser; Supplier Part Number 8: 584-ADP151AUJZ-3.3R7; Packing: Reel; Mounting Technology: Surface Mount; Code_JEDEC: MO-193-AB; ComponentLink1Description: Manufacturer URL; ComponentLink1URL: http://www.analog.com/en/index.html; ComponentLink2Description: Datasheet; ComponentLink2URL: http://www.analog.com/static/imported-files/data_sheets/ADP151.pdf; ComponentLink3Description: Package Specification; ComponentLink3URL: http:/www.analog.com/static/imported-files/packages/PKG_PDF/TSOT(UJ)/UJ_5.pdf; ComponentLink4Description: URL Link1; ComponentLink4URL: Product URL:http://www.analog.com/en/ADP151/productSearch.html
footprint ADI-UJ-5_N (SOT23, 5-Leads, Body 2.9x1.6mm, Pitch 0.95mm, IPC Medium Density)
footprint ADI-UJ-5_L (SOT23, 5-Leads, Body 2.9x1.6mm, Pitch 0.95mm, IPC High Density)
footprint ADI-UJ-5_M (SOT23, 5-Leads, Body 2.9x1.6mm, Pitch 0.95mm, IPC Low Density)
pins: 1 VIN (power) "Regulator Input Supply. Bypass VIN to GND with a capacitor of at least 1 uF.", 2 GND (power) "Ground.", 3 EN (in) "Enable Input. Drive EN high to turn on the regulator; drive EN low to turn off the regulator. For automatic startup, connect EN to VIN.", 4 NC "No Connect. These pins are not internally bonded. They can be left floating or connected to ground.", 5 VOUT (power) "Regulated Output Voltage. Bypass VOUT to GND with a capacitor of at least 1 uF."

## ADP151TUJZ3.3-EPR2
designator U?
Ultralow Noise, 200 mA, CMOS Linear Regulator, 2.2 to 5.5 V Vin, 3.3 V Vout, Military, 5-pin SOT23 (UJ-5), Reel; Manufacturer: Analog Devices; PartNumber: ADP151TUJZ3.3-EPR2; Iout max: 200mA; Preset Vout Values (V): 3.3; Supply Current IGND @ Small Load: 10uA; Vin (max) (V): 5.5; Vin (min) (V): 2.2; DatasheetVersion: Rev. 0; PackageVersion: 100708-A, 10/2008; PackageReference: UJ-5; PackageDescription: 5-Pin Thin Small Outline Transistor Package, Body 2.9 x 1.6 mm, Pitch 0.95 mm; Supplier 1: Mouser; Supplier Part Number 1: N/A; Packing: Reel; Mounting Technology: Surface Mount; Code_JEDEC: MO-193-AB; ComponentLink1Description: Manufacturer URL; ComponentLink1URL: http://www.analog.com/en/index.html; ComponentLink2Description: Datasheet; ComponentLink2URL: http://www.analog.com/static/imported-files/data_sheets/ADP151-EP.pdf; ComponentLink3Description: Package Specification; ComponentLink3URL: http:/www.analog.com/static/imported-files/packages/PKG_PDF/TSOT(UJ)/UJ_5.pdf; ComponentLink4Description: URL Link1; ComponentLink4URL: Product URL:http://www.analog.com/en/ADP151/productSearch.html
footprint ADI-UJ-5_N (SOT23, 5-Leads, Body 2.9x1.6mm, Pitch 0.95mm, IPC Medium Density)
footprint ADI-UJ-5_L (SOT23, 5-Leads, Body 2.9x1.6mm, Pitch 0.95mm, IPC High Density)
footprint ADI-UJ-5_M (SOT23, 5-Leads, Body 2.9x1.6mm, Pitch 0.95mm, IPC Low Density)
pins: 1 VIN (power) "Regulator Input Supply. Bypass VIN to GND with a capacitor of at least 1 uF.", 2 GND (power) "Ground.", 3 EN (in) "Enable Input. Drive EN high to turn on the regulator; drive EN low to turn off the regulator. For automatic startup, connect EN to VIN.", 4 NC "No Connect. These pins are not internally bonded. They can be left floating or connected to ground.", 5 VOUT (power) "Regulated Output Voltage. Bypass VOUT to GND with a capacitor of at least 1 uF."

## ADP163AUJZ-R7
designator U?
Ultralow Quiescent Current,150 mA, CMOS Linear Regulator, 2.2 to 5.5 V Vin, 0.99 to 1.01 V Vout, Industrial, 5-pin SOT23 (UJ-5), Reel; Manufacturer: Analog Devices; PartNumber: ADP163AUJZ-R7; Iout max: 150mA; Supply Current IGND @ Small Load: 560nA; Vin (max) (V): 5.5; Vin (min) (V): 2.2; Vout Adjustable Range: 0.99V to 1.01V; DatasheetVersion: Rev. G; PackageVersion: 100708-A, 10/2008; PackageReference: UJ-5; PackageDescription: 5-Pin Thin Small Outline Transistor Package, Body 2.9 x 1.6 mm, Pitch 0.95 mm; Supplier 1: Digi-Key; Supplier Part Number 1: ADP163AUJZ-R7TR-ND; Supplier 2: Digi-Key; Supplier Part Number 2: ADP163AUJZ-R7CT-ND; Supplier 3: Digi-Key; Supplier Part Number 3: ADP163AUJZ-R7DKR-ND; Supplier 4: Newark; Supplier Part Number 4: 18T2031; Supplier 5: Mouser; Supplier Part Number 5: 584-ADP163AUJZ-R7; Packing: Reel; Mounting Technology: Surface Mount; Code_JEDEC: MO-193-AB; ComponentLink1Description: Manufacturer URL; ComponentLink1URL: http://www.analog.com/en/index.html; ComponentLink2Description: Datasheet; ComponentLink2URL: http://www.analog.com/static/imported-files/data_sheets/ADP160_161_162_163.pdf; ComponentLink3Description: Package Specification; ComponentLink3URL: http:/www.analog.com/static/imported-files/packages/PKG_PDF/TSOT(UJ)/UJ_5.pdf; ComponentLink4Description: URL Link1; ComponentLink4URL: Product URL:http://www.analog.com/en/ADP163/productSearch.html
footprint ADI-UJ-5_N (SOT23, 5-Leads, Body 2.9x1.6mm, Pitch 0.95mm, IPC Medium Density)
footprint ADI-UJ-5_L (SOT23, 5-Leads, Body 2.9x1.6mm, Pitch 0.95mm, IPC High Density)
footprint ADI-UJ-5_M (SOT23, 5-Leads, Body 2.9x1.6mm, Pitch 0.95mm, IPC Low Density)
pins: 1 VIN (power) "Regulator Input Supply. Bypass VIN to GND with a 1 uF or greater capacitor.", 2 GND (power) "Ground.", 3 EN (in) "Enable Input. Drive EN high to turn on the regulator; drive EN low to turn off the regulator. For automatic startup, connect EN to VIN.", 4 ADJ (in) "Output Voltage Adjust Pin. Connect the midpoint of the voltage divider between VOUT and GND to this pin to set the output voltage.", 5 VOUT (power) "Regulated Output Voltage. Bypass VOUT to GND with a 1 uF or greater capacitor."

## ADP220ACBZ275275R7
designator U?
Dual, 200 mA, Low Noise, High PSRR Voltage Regulator, 2.5 to 5.5 V Vin, 2.75 V Vout, Industrial, 6-pin BGA (CB-6-2), Reel; Manufacturer: Analog Devices; PartNumber: ADP220ACBZ275275R7; Iout max: 200mA; Preset Vout Values (V): 2.75; 2.75; Supply Current IGND @ Small Load: 60uA; Vin (max) (V): 5.5; Vin (min) (V): 2.5; DatasheetVersion: 08-15-2012-A; PackageVersion: 062206-A, 06/2006; PackageReference: CB-6-2; PackageDescription: 6-Ball Wafer Level Chip Scale Package, Body 1.45 x 0.95 mm, Pitch 0.5 mm; Supplier 1: Digi-Key; Supplier Part Number 1: ADP220ACBZ275275R7TR-ND; Supplier 2: Digi-Key; Supplier Part Number 2: ADP220ACBZ275275R7CT-ND; Supplier 3: Digi-Key; Supplier Part Number 3: ADP220ACBZ275275R7DKR-ND; Supplier 4: Mouser; Supplier Part Number 4: 584-P220ACBZ275275R7; Packing: Reel; Mounting Technology: Surface Mount; ComponentLink1Description: Manufacturer URL; ComponentLink1URL: http://www.analog.com/en/index.html; ComponentLink2Description: Datasheet; ComponentLink2URL: http://www.analog.com/static/imported-files/data_sheets/ADP220_221.pdf; ComponentLink3Description: Package Specification; ComponentLink3URL: http://www.analog.com/static/imported-files/data_sheets/AD8312.pdf; ComponentLink4Description: URL Link1; ComponentLink4URL: Product URL:http://www.analog.com/en/ADP220/productSearch.html
footprint ADI-CB-6-2 (BGA, 6-Balls, Body 1.45x0.95mm, Pitch 0.5mm)
pins: A1 EN1 (in) "Enable Input for Regulator 1. Drive EN1 high to turn on Regulator 1; drive it low to turn off Regulator 1. For automatic startup, connect EN1 to VIN.", A2 VOUT1 (power) "Regulated Output Voltage 1. Connect a 1 uF or greater output capacitor between VOUT1 and GND.", B1 GND (power) "Ground Pin.", B2 VIN (power) "Regulator Input Supply. Bypass VIN to GND with a 1 uF or greater capacitor.", C1 EN2 (in) "Enable Input for Regulator 2. Drive EN2 high to turn on Regulator 2; drive it low to turn off Regulator 2. For automatic startup, connect EN2 to VIN.", C2 VOUT2 (power) "Regulated Output Voltage 2. Connect a 1 uF or greater output capacitor between VOUT2 and GND."

## ADP220ACBZ-1118R7
designator U?
Dual, 200 mA, Low Noise, High PSRR Voltage Regulator, 2.5 to 5.5 V Vin, 1.1; 1.8 V Vout, Industrial, 6-pin BGA (CB-6-2), Reel; Manufacturer: Analog Devices; PartNumber: ADP220ACBZ-1118R7; Iout max: 200mA; Supply Current IGND @ Small Load: 60uA; Vin (max) (V): 5.5; Vin (min) (V): 2.5; DatasheetVersion: 08-15-2012-A; PackageVersion: 062206-A, 06/2006; PackageReference: CB-6-2; PackageDescription: 6-Ball Wafer Level Chip Scale Package, Body 1.45 x 0.95 mm, Pitch 0.5 mm; Supplier 1: Mouser; Supplier Part Number 1: N/A; Packing: Reel; Preset Vout Values (V): 1.1; 1.8; Mounting Technology: Surface Mount; ComponentLink1Description: Manufacturer URL; ComponentLink1URL: http://www.analog.com/en/index.html; ComponentLink2Description: Datasheet; ComponentLink2URL: http://www.analog.com/static/imported-files/data_sheets/ADP220_221.pdf; ComponentLink3Description: Package Specification; ComponentLink3URL: http://www.analog.com/static/imported-files/data_sheets/AD8312.pdf; ComponentLink4Description: URL Link1; ComponentLink4URL: Product URL:http://www.analog.com/en/ADP220/productSearch.html
footprint ADI-CB-6-2 (BGA, 6-Balls, Body 1.45x0.95mm, Pitch 0.5mm)
pins: A1 EN1 (in) "Enable Input for Regulator 1. Drive EN1 high to turn on Regulator 1; drive it low to turn off Regulator 1. For automatic startup, connect EN1 to VIN.", A2 VOUT1 (power) "Regulated Output Voltage 1. Connect a 1 uF or greater output capacitor between VOUT1 and GND.", B1 GND (power) "Ground Pin.", B2 VIN (power) "Regulator Input Supply. Bypass VIN to GND with a 1 uF or greater capacitor.", C1 EN2 (in) "Enable Input for Regulator 2. Drive EN2 high to turn on Regulator 2; drive it low to turn off Regulator 2. For automatic startup, connect EN2 to VIN.", C2 VOUT2 (power) "Regulated Output Voltage 2. Connect a 1 uF or greater output capacitor between VOUT2 and GND."

## ADP220ACBZ-1212R7
designator U?
Dual, 200 mA, Low Noise, High PSRR Voltage Regulator, 2.5 to 5.5 V Vin, 1.2 V Vout, Industrial, 6-pin BGA (CB-6-2), Reel; Manufacturer: Analog Devices; PartNumber: ADP220ACBZ-1212R7; Iout max: 200mA; Preset Vout Values (V): 1.2; 1.2; Supply Current IGND @ Small Load: 60uA; Vin (max) (V): 5.5; Vin (min) (V): 2.5; DatasheetVersion: 08-15-2012-A; PackageVersion: 062206-A, 06/2006; PackageReference: CB-6-2; PackageDescription: 6-Ball Wafer Level Chip Scale Package, Body 1.45 x 0.95 mm, Pitch 0.5 mm; Supplier 1: Digi-Key; Supplier Part Number 1: ADP220ACBZ-1212R7TR-ND; Supplier 2: Digi-Key; Supplier Part Number 2: ADP220ACBZ-1212R7CT-ND; Supplier 3: Digi-Key; Supplier Part Number 3: ADP220ACBZ-1212R7DKR-ND; Supplier 4: Mouser; Supplier Part Number 4: 584-ADP220ACBZ1212R7; Packing: Reel; Mounting Technology: Surface Mount; ComponentLink1Description: Manufacturer URL; ComponentLink1URL: http://www.analog.com/en/index.html; ComponentLink2Description: Datasheet; ComponentLink2URL: http://www.analog.com/static/imported-files/data_sheets/ADP220_221.pdf; ComponentLink3Description: Package Specification; ComponentLink3URL: http://www.analog.com/static/imported-files/data_sheets/AD8312.pdf; ComponentLink4Description: URL Link1; ComponentLink4URL: Product URL:http://www.analog.com/en/ADP220/productSearch.html
footprint ADI-CB-6-2 (BGA, 6-Balls, Body 1.45x0.95mm, Pitch 0.5mm)
pins: A1 EN1 (in) "Enable Input for Regulator 1. Drive EN1 high to turn on Regulator 1; drive it low to turn off Regulator 1. For automatic startup, connect EN1 to VIN.", A2 VOUT1 (power) "Regulated Output Voltage 1. Connect a 1 uF or greater output capacitor between VOUT1 and GND.", B1 GND (power) "Ground Pin.", B2 VIN (power) "Regulator Input Supply. Bypass VIN to GND with a 1 uF or greater capacitor.", C1 EN2 (in) "Enable Input for Regulator 2. Drive EN2 high to turn on Regulator 2; drive it low to turn off Regulator 2. For automatic startup, connect EN2 to VIN.", C2 VOUT2 (power) "Regulated Output Voltage 2. Connect a 1 uF or greater output capacitor between VOUT2 and GND."

## ADP220ACBZ-1812R7
designator U?
Dual, 200 mA, Low Noise, High PSRR Voltage Regulator, 2.5 to 5.5 V Vin, 1.8; 1.2 V Vout, Industrial, 6-pin BGA (CB-6-2), Reel; Manufacturer: Analog Devices; PartNumber: ADP220ACBZ-1812R7; Iout max: 200mA; Supply Current IGND @ Small Load: 60uA; Vin (max) (V): 5.5; Vin (min) (V): 2.5; DatasheetVersion: 08-15-2012-A; PackageVersion: 062206-A, 06/2006; PackageReference: CB-6-2; PackageDescription: 6-Ball Wafer Level Chip Scale Package, Body 1.45 x 0.95 mm, Pitch 0.5 mm; Supplier 1: Digi-Key; Supplier Part Number 1: ADP220ACBZ-1812R7TR-ND; Supplier 2: Digi-Key; Supplier Part Number 2: ADP220ACBZ-1812R7CT-ND; Supplier 3: Digi-Key; Supplier Part Number 3: ADP220ACBZ-1812R7DKR-ND; Supplier 4: Newark; Supplier Part Number 4: 63R9764; Supplier 5: Mouser; Supplier Part Number 5: 584-ADP220ACBZ1812R7; Packing: Reel; Preset Vout Values (V): 1.8; 1.2; Mounting Technology: Surface Mount; ComponentLink1Description: Manufacturer URL; ComponentLink1URL: http://www.analog.com/en/index.html; ComponentLink2Description: Datasheet; ComponentLink2URL: http://www.analog.com/static/imported-files/data_sheets/ADP220_221.pdf; ComponentLink3Description: Package Specification; ComponentLink3URL: http://www.analog.com/static/imported-files/data_sheets/AD8312.pdf; ComponentLink4Description: URL Link1; ComponentLink4URL: Product URL:http://www.analog.com/en/ADP220/productSearch.html
footprint ADI-CB-6-2 (BGA, 6-Balls, Body 1.45x0.95mm, Pitch 0.5mm)
pins: A1 EN1 (in) "Enable Input for Regulator 1. Drive EN1 high to turn on Regulator 1; drive it low to turn off Regulator 1. For automatic startup, connect EN1 to VIN.", A2 VOUT1 (power) "Regulated Output Voltage 1. Connect a 1 uF or greater output capacitor between VOUT1 and GND.", B1 GND (power) "Ground Pin.", B2 VIN (power) "Regulator Input Supply. Bypass VIN to GND with a 1 uF or greater capacitor.", C1 EN2 (in) "Enable Input for Regulator 2. Drive EN2 high to turn on Regulator 2; drive it low to turn off Regulator 2. For automatic startup, connect EN2 to VIN.", C2 VOUT2 (power) "Regulated Output Voltage 2. Connect a 1 uF or greater output capacitor between VOUT2 and GND."

## ADP220ACBZ-1827R7
designator U?
Dual, 200 mA, Low Noise, High PSRR Voltage Regulator, 2.5 to 5.5 V Vin, 1.8; 2.7 V Vout, Industrial, 6-pin BGA (CB-6-2), Reel; Manufacturer: Analog Devices; PartNumber: ADP220ACBZ-1827R7; Iout max: 200mA; Supply Current IGND @ Small Load: 60uA; Vin (max) (V): 5.5; Vin (min) (V): 2.5; DatasheetVersion: 08-15-2012-A; PackageVersion: 062206-A, 06/2006; PackageReference: CB-6-2; PackageDescription: 6-Ball Wafer Level Chip Scale Package, Body 1.45 x 0.95 mm, Pitch 0.5 mm; Supplier 1: Digi-Key; Supplier Part Number 1: ADP220ACBZ-1827R7TR-ND; Supplier 2: Digi-Key; Supplier Part Number 2: ADP220ACBZ-1827R7CT-ND; Supplier 3: Digi-Key; Supplier Part Number 3: ADP220ACBZ-1827R7DKR-ND; Supplier 4: Mouser; Supplier Part Number 4: 584-ADP220ACBZ1827R7; Packing: Reel; Preset Vout Values (V): 1.8; 2.7; Mounting Technology: Surface Mount; ComponentLink1Description: Manufacturer URL; ComponentLink1URL: http://www.analog.com/en/index.html; ComponentLink2Description: Datasheet; ComponentLink2URL: http://www.analog.com/static/imported-files/data_sheets/ADP220_221.pdf; ComponentLink3Description: Package Specification; ComponentLink3URL: http://www.analog.com/static/imported-files/data_sheets/AD8312.pdf; ComponentLink4Description: URL Link1; ComponentLink4URL: Product URL:http://www.analog.com/en/ADP220/productSearch.html
footprint ADI-CB-6-2 (BGA, 6-Balls, Body 1.45x0.95mm, Pitch 0.5mm)
pins: A1 EN1 (in) "Enable Input for Regulator 1. Drive EN1 high to turn on Regulator 1; drive it low to turn off Regulator 1. For automatic startup, connect EN1 to VIN.", A2 VOUT1 (power) "Regulated Output Voltage 1. Connect a 1 uF or greater output capacitor between VOUT1 and GND.", B1 GND (power) "Ground Pin.", B2 VIN (power) "Regulator Input Supply. Bypass VIN to GND with a 1 uF or greater capacitor.", C1 EN2 (in) "Enable Input for Regulator 2. Drive EN2 high to turn on Regulator 2; drive it low to turn off Regulator 2. For automatic startup, connect EN2 to VIN.", C2 VOUT2 (power) "Regulated Output Voltage 2. Connect a 1 uF or greater output capacitor between VOUT2 and GND."